# Altium integrated library ERJ-12ZYJ135U.IntLib: 1 symbol
Pins are listed as number, name and electrical type; pins without a type are passive.

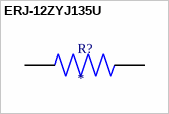
[diagram p0: symbol ERJ-12ZYJ135U]

## ERJ-12ZYJ135U
designator R?
Res Thick Film 2010 1.3M Ohm 5% 3/4W -400ppm/Â°C to 150ppm/Â°C Molded SMD SMD Embossed Carrier T/R; MF: Panasonic; MP: ERJ-12ZYJ135U; SnapEDA_Link: https://www.snapeda.com/parts/ERJ-12ZYJ135U/Panasonic/view-part/?ref=snap; Package: 5025 Panasonic Electronic Components; Value: *; Check_prices: https://www.snapeda.com/parts/ERJ-12ZYJ135U/Panasonic/view-part/?ref=eda
footprint RESC5025X70N
pins: 1, 2